# Altium footprint library Inductor_D860.PcbLib: 1 footprints
Each footprint in its own frame and in the unit in brackets; x right, y up, seen from the top. Pads: shape width x height; smd on the part's side, far side on the other; paste and mask are expansions set on the pad; w line width, h text height; cw(c..) or ccw(c..) is an arc to the next point about the centre after c.
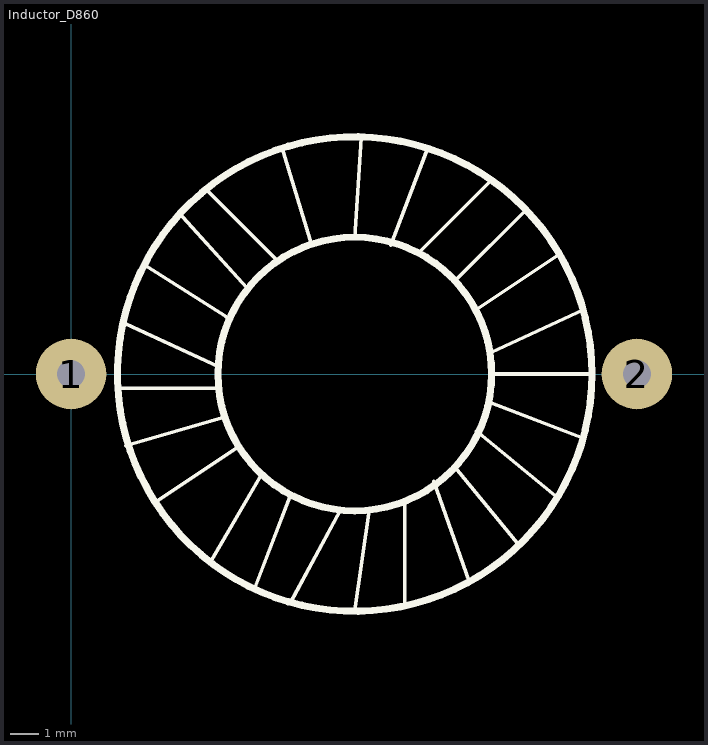
[diagram p0: the footprint, top view; thin cyan lines are the x and y axes]

## Inductor_D860 [mm]
pads (2):
  round 2.5 hole 1: 1(0,0) 2(20.066,0)
Top Overlay:
  circle w0.254: c10.06,0 r4.853
  circle w0.254: c10.06,0 r8.413
  lines w0.127: 1.678,-0.508 5.234,-0.508 ; 1.932,-2.54 5.488,-1.524 ; 1.932,1.778 5.234,0.254 ; 2.694,3.81 5.488,2.032 ; 2.948,-4.572 5.996,-2.54 ; 3.951,5.577 6.25,3.048 ; 4.853,6.477 7.266,4.064 ; 4.98,-6.604 6.758,-3.556 ; 6.504,-7.62 7.774,-4.318 ; 7.52,7.874 8.536,4.572 ; 7.774,-8.128 9.552,-4.826 ; 10.06,-8.382 10.568,-4.826 ; 10.06,4.826 10.297,8.382 ; 11.33,4.572 12.6,7.874 ; 11.838,-8.128 11.838,-4.572 ; 12.346,4.318 14.886,6.858 ; 12.854,-3.81 14.124,-7.366 ; 13.616,-3.302 15.902,-6.096 ; 13.616,3.302 16.156,5.842 ; 14.378,-2.032 17.172,-4.318 ; 14.378,2.286 17.25,4.201 ; 14.886,-1.016 18.188,-2.286 ; 14.886,0.762 18.188,2.286 ; 14.913,0 18.473,0